# Altium footprint library ecg.PcbLib: 7 footprints
Each footprint in its own frame and in the unit in brackets; x right, y up, seen from the top. Pads: shape width x height; smd on the part's side, far side on the other; paste and mask are expansions set on the pad; w line width, h text height; cw(c..) or ccw(c..) is an arc to the next point about the centre after c.
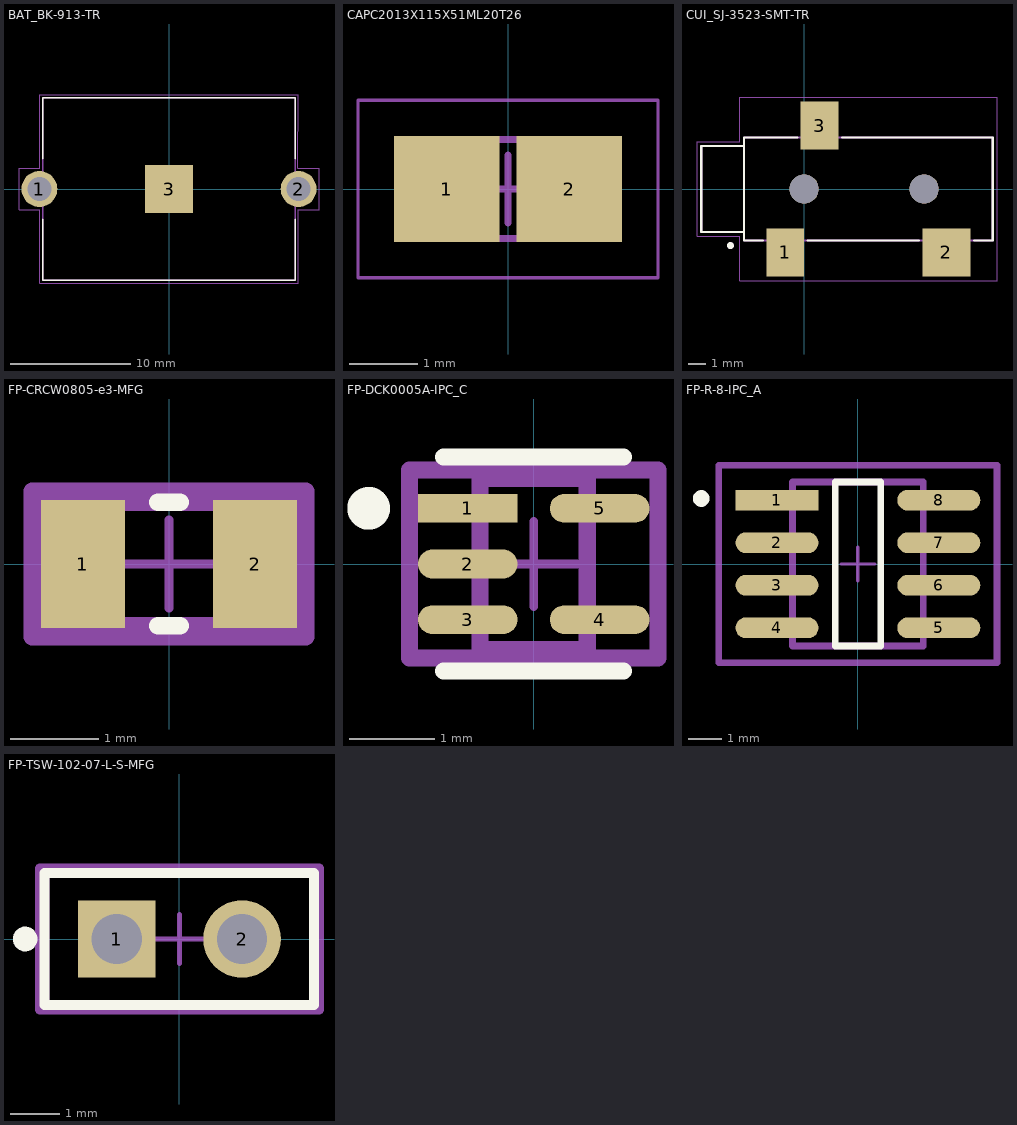
[diagram p0: the footprints below, top view; thin cyan lines are the x and y axes]

## BAT_BK-913-TR [mm]
pads (3):
  round 3 hole 2: 1(-10.8,0) 2(10.8,0)
  rect 3.96x3.96 smd: 3(0,0)
Top Overlay:
  lines w0.127: -10.54,-2.54 -10.54,-7.62 10.54,-7.62 10.54,-2.54 ; -10.54,2.54 -10.54,7.62 10.54,7.62 10.54,2.54
Mechanical 13:
  lines w0.127: -10.56,-1.1 -11.175,-1.1 -11.175,1.1 -10.56,1.1 ; 10.56,-1.1 11.175,-1.1 11.175,1.1 10.56,1.1 ; -10.54,-7.62 10.54,-7.62 10.54,7.62 -10.54,7.62 -10.54,-7.62
Mechanical 15:
  lines w0.05: -12.5,-1.75 -10.79,-1.75 -10.79,-7.87 10.79,-7.87 10.79,-1.75 12.5,-1.75 12.5,1.75 10.75,1.75 10.79,7.87 -10.79,7.87 -10.79,1.75 -12.5,1.75 -12.5,-1.75

## CAPC2013X115X51ML20T26 [mm] "Chip Capacitor, 2-Leads, Body 2.01x1.25mm, IPC Low Density"
height 1.15
pads (2):
  rect 1.55x1.55 smd: 1(-0.9,0) 2(0.9,0)
Mechanical 13:
  lines w0.1: -1.105,-0.725 1.105,-0.725 1.105,0.725 -1.105,0.725 -1.105,-0.725
Mechanical 15:
  lines w0.05: -2.2,-1.3 2.2,-1.3 2.2,1.3 -2.2,1.3 -2.2,-1.3
  lines w0.1: -0.5,0 0.5,0 ; 0,-0.5 0,0.5
3D body: height 1.15, standoff 0, extent 0.595,-0.725 1.105,0.725
3D body: height 1.15, standoff 0, extent -1.105,-0.725 -0.595,0.725
3D body: height 1.15, standoff 0, extent -0.595,-0.725 0.595,0.725

## CUI_SJ-3523-SMT-TR [mm]
pads (5):
  rect 2.2x2.8 smd: 1(-1.1,-3.7) 3(0.9,3.7)
  rect 2.8x2.8 smd: 2(8.3,-3.7)
  round 1.7 hole 1.7 unplated: ""(0,0) ""(7,0)
Top Overlay:
  circle w0.2: c-4.3,-3.3 r0.1
  lines w0.127: -2.4,-3 -3.5,-3 -3.5,-2.5 ; -0.4,3 -3.5,3 -3.5,2.5 ; 0.2,-3 6.7,-3 ; 2.2,3 11,3 11,-3 9.9,-3 ; -3.5,-2.5 -6,-2.5 -6,2.5 -3.5,2.5 ; -3.5,-2.5 -3.5,2.5
Mechanical 13:
  circle w0.2: c-4.3,-3.3 r0.1
  lines w0.127: -3.5,-2.5 -6,-2.5 -6,2.5 -3.5,2.5 ; -3.5,-3 11,-3 11,3 -3.5,3 -3.5,-3
Mechanical 15:
  lines w0.05: -6.25,-2.75 -3.75,-2.75 -3.75,-5.35 11.25,-5.35 11.25,5.35 -3.75,5.35 -3.75,2.75 -6.25,2.75 -6.25,-2.75

## FP-CRCW0805-e3-MFG [mm]
pads (2):
  rect 0.95x1.45 smd paste+0 mask+0: 1(-0.975,0) 2(0.975,0)
Top Overlay:
  lines w0.2: -0.125,-0.7 0.125,-0.7 ; -0.125,0.7 0.125,0.7
Mechanical 5:
  lines w0.2: -1.55,-0.825 -1.55,0.825 1.55,0.825 1.55,-0.825 -1.55,-0.825
  text ".Designator" at 0,0.188 h1
Mechanical 13:
  lines w0.2: -1.1,-0.7 -1.1,0.7 1.1,0.7 1.1,-0.7 -1.1,-0.7
Mechanical 15:
  lines w0.2: -1.55,-0.825 -1.55,0.825 1.55,0.825 1.55,-0.825 -1.55,-0.825
Mechanical 16:
  lines w0.1: -0.5,0 0.5,0 ; 0,-0.5 0,0.5
3D body "Res_Vishay_CRCW0805100KFKEA_eec.STEP": height 0.25, standoff 0, extent -1.55,-0.825 1.55,0.825

## FP-DCK0005A-IPC_C [mm]
pads (5):
  rect 1.164x0.336 smd paste+0 mask+0: 1(-0.77,0.65)
  rrect100% 1.164x0.336 smd paste+0 mask+0: 2(-0.77,0) 3(-0.77,-0.65) 4(0.77,-0.65) 5(0.77,0.65)
Top Overlay:
  circle w0.25: c-1.927,0.65 r0.125
  lines w0.2: -1.05,-1.25 1.05,-1.25 ; -1.05,1.25 1.05,1.25
Mechanical 5:
  lines w0.2: -1.452,-1.1 -1.452,1.1 1.452,1.1 1.452,-1.1 -1.452,-1.1
  text ".Designator" at 0,0.188 h1
Mechanical 13:
  lines w0.2: -0.625,-1 -0.625,1 0.625,1 0.625,-1 -0.625,-1
Mechanical 15:
  lines w0.2: -1.452,-1.1 -1.452,1.1 1.452,1.1 1.452,-1.1 -1.452,-1.1
Mechanical 16:
  lines w0.1: -0.5,0 0.5,0 ; 0,-0.5 0,0.5

## FP-R-8-IPC_A [mm]
pads (8):
  rect 2.474x0.622 smd paste+0 mask+0: 1(-2.416,1.905)
  rrect100% 2.474x0.622 smd paste+0 mask+0: 2(-2.416,0.635) 3(-2.416,-0.635) 4(-2.416,-1.905) 5(2.416,-1.905) 6(2.416,-0.635) 7(2.416,0.635) 8(2.416,1.905)
Top Overlay:
  circle w0.25: c-4.678,1.955 r0.125
  lines w0.2: -0.679,-2.45 0.679,-2.45 0.679,2.45 -0.679,2.45 -0.679,-2.45
Mechanical 5:
  lines w0.2: -4.153,-2.95 4.153,-2.95 4.153,2.95 -4.153,2.95 -4.153,-2.95
  text ".Designator" at 0,0.188 h1
Mechanical 13:
  lines w0.2: -1.95,-2.45 1.95,-2.45 1.95,2.45 -1.95,2.45 -1.95,-2.45
Mechanical 15:
  lines w0.2: -4.153,-2.95 4.153,-2.95 4.153,2.95 -4.153,2.95 -4.153,-2.95
Mechanical 16:
  lines w0.1: -0.5,0 0.5,0 ; 0,-0.5 0,0.5
3D body "IC_Analog_Devices_AD629ARZ_eec.STEP": height 0.25, standoff 0, extent -4.153,-2.95 4.153,2.95

## FP-TSW-102-07-L-S-MFG [mm]
pads (2):
  rect 1.57x1.57 hole 1.02 paste-1000 mask+0: 1(-1.27,0)
  round 1.57 hole 1.02 paste-1000 mask+0: 2(1.27,0)
Top Overlay:
  circle w0.25: c-3.125,0 r0.125
  lines w0.2: -2.73,-1.335 2.73,-1.335 2.73,1.335 -2.73,1.335 -2.73,-1.335
Mechanical 5:
  lines w0.2: -2.83,-1.435 2.83,-1.435 2.83,1.435 -2.83,1.435 -2.83,-1.435
  text ".Designator" at 0,0.188 h1
Mechanical 13:
  lines w0.2: -2.73,-1.335 2.73,-1.335 2.73,1.335 -2.73,1.335 -2.73,-1.335
Mechanical 15:
  lines w0.2: -2.83,-1.435 2.83,-1.435 2.83,1.435 -2.83,1.435 -2.83,-1.435
Mechanical 16:
  lines w0.1: -0.5,0 0.5,0 ; 0,-0.5 0,0.5
3D body "Conn_SAMTEC_TSW-102-07-L-S_eec.STEP": height 0.25, standoff 0, extent -2.83,-1.435 2.83,1.435